# Altium footprint library Switches.PcbLib: 2 footprints
Each footprint in its own frame and in the unit in brackets; x right, y up, seen from the top. Pads: shape width x height; smd on the part's side, far side on the other; paste and mask are expansions set on the pad; w line width, h text height; cw(c..) or ccw(c..) is an arc to the next point about the centre after c.
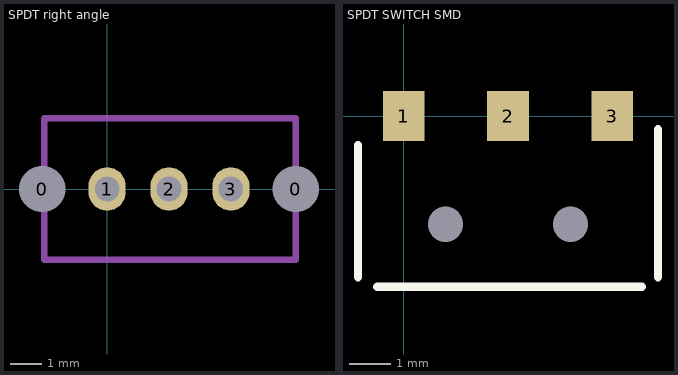
[diagram p0: the footprints below, top view; thin cyan lines are the x and y axes]

## SPDT right angle [mm]
pads (5):
  round 1.2 hole 1.5 mask+0.08: 0(-2.1,0) 0(6.1,0)
  oval 1.2x1.4 hole 0.8 mask+0.08: 1(0,0) 2(2,0) 3(4,0)
Mechanical 1:
  lines w0.2: -2.1,0 -2.032,0.068 ; -2.032,0.068 -2.032,-2.286 6.096,-2.286 6.1,-2.282 6.1,0 6.1,2.282 6.096,2.286 -2.032,2.286 -2.032,0.068

## SPDT SWITCH SMD [mm]
pads (5):
  round 0 hole 0.85 mask+0.08: 0(1,-2.6) 0(4,-2.6)
  rect 1x1.2 smd mask+0.08: 1(0,0) 2(2.5,0) 3(5,0)
Top Overlay:
  lines w0.2: -1.1,-3.87 -1.1,-0.695 ; -0.635,-4.1 5.715,-4.1 ; 6.1,-3.87 6.1,-0.314